# EAGLE library part X__JST_SH_6 (library connector)
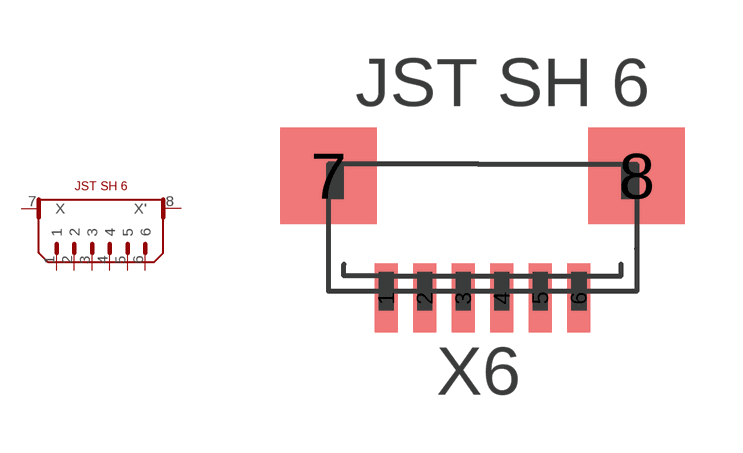
[diagram p2: symbol with the pads of JST_SH_6; footprint JST_SH_6]

Designator prefix -

## X__JST_SH_6  [JST_SH_6]
1  1
2  2
3  3
4  4
5  5
6  6
7  X
8  X'

## Footprint JST_SH_6 (pad centres in mm)
smd 0.6 x 1.8: 1 -2.5,-2.275; 2 -1.5,-2.275; 3 -0.5,-2.275; 4 0.5,-2.275; 5 1.5,-2.275; 6 2.5,-2.275
smd 2.5 x 2.5: 7 -4,0.9; 8 4,0.9